# Altium schematic symbol library SGDBM-05-60P.SCHLIB: 1 symbol
Pins are listed as number, name and electrical type; pins without a type are passive.

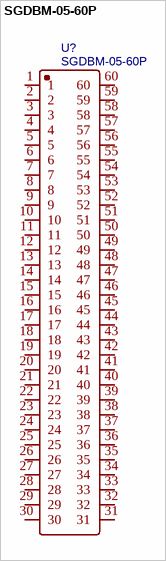
[diagram p0: symbol SGDBM-05-60P]

## SGDBM-05-60P
designator U?
BOM_Manufacturer: null; Contributor: LCSC; BOM_Supplier: LCSC; BOM_Supplier Part: C9900010919; BOM_Manufacturer Part: SGDBM-05-60P; BOM_JLCPCB Part Class: Extended Part; spicePre: U; spiceSymbolName: SGDBM-05-60P
footprint CONN-SMD_60P-P0.50_SGDBM-05-60
pins: 1, 2, 3, 4, 5, 6, 7, 8, 9, 10, 11, 12, 13, 14, 15, 16, 17, 18, 19, 20, 21, 22, 23, 24, 25, 26, 27, 28, 29, 30, 31, 32, 33, 34, 35, 36, 37, 38, 39, 40, 41, 42, 43, 44, 45, 46, 47, 48, 49, 50, 51, 52, 53, 54, 55, 56, 57, 58, 59, 60